# EAGLE library part UBW (library GMC-4 UBW Loader Library)
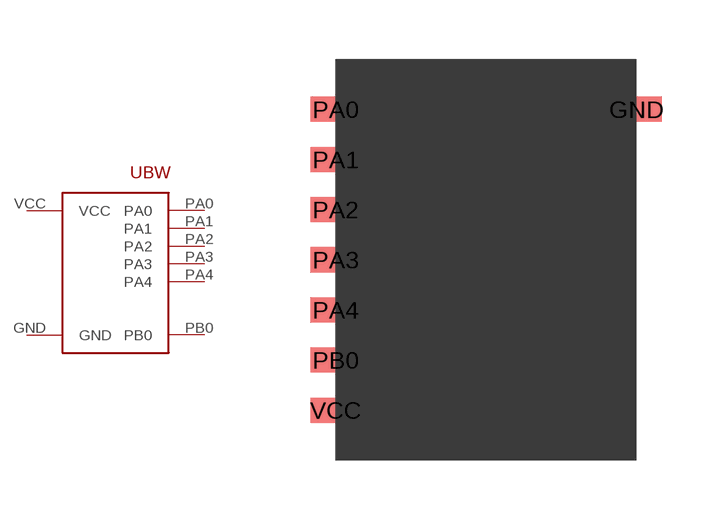
[diagram p0: symbol with the pads of UBW; footprint UBW]

Designator prefix -

## UBW  [UBW]
GND  GND  sup
PA0  PA0
PA1  PA1
PA2  PA2
PA3  PA3
PA4  PA4
PB0  PB0
VCC  VCC  pwr

## Footprint UBW (pad centres in mm)
smd 1.27 x 0.635: GND 3.81,3.81; PA0 -3.81,3.81; PA1 -3.81,2.54; PA2 -3.81,1.27; PA3 -3.81,0; PA4 -3.81,-1.27; PB0 -3.81,-2.54; VCC -3.81,-3.81